# Altium schematic symbol library sm_battery.SchLib: 4 symbols
Pins are listed as number, name and electrical type; pins without a type are passive.

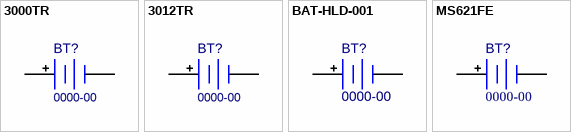
[diagram p0: symbols 3000TR to MS621FE]

## 3000TR
designator BT?, comment 0000-00
CR1620 SMD Battery Holder; MF: Kestone; PN: 0000-00; ExtraInfo: *; Class: Battery
footprint 3000TR (CR1220 SMD Battery Holder)
pins: 1 +, 2 -

## 3012TR
designator BT?, comment 0000-00
CR1620 SMD Battery Holder; MF: Kestone; PN: 0000-00; ExtraInfo: *; Value: *; Package: *; Class: Battery
footprint 3012TR (CR1620 SMD Battery Holder)
footprint 3012TR-B (CR1620 SMD Battery Holder)
pins: 1 +, 2 -

## BAT-HLD-001
designator BT?, comment 0000-00
CR2032 SMD Battery Holder; PN: 0000-00; ExtraInfo: *; Value: *; Package: *; Class: Battery
footprint BAT-HLD-001 (CR2032 SMD Battery Holder)
pins: 1 +, 2 -

## MS621FE
designator BT?, comment 0000-00
6.8mm Lithium Battery; Value: MS621FE; PN: 0000-00; Package: *; ExtraInfo: *; Class: Battery
footprint MS621FE (6.8mm Solder Mount Battery)
pins: 1 +, 2 -